# Altium footprint library Gravix-Diode.PcbLib: 4 footprints
Each footprint in its own frame and in the unit in brackets; x right, y up, seen from the top. Pads: shape width x height; smd on the part's side, far side on the other; paste and mask are expansions set on the pad; w line width, h text height; cw(c..) or ccw(c..) is an arc to the next point about the centre after c.
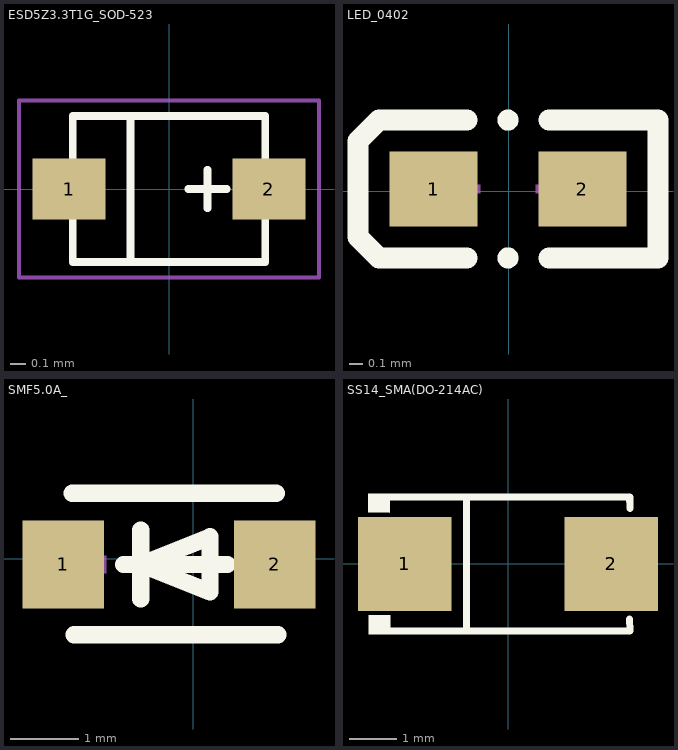
[diagram p0: the footprints below, top view; thin cyan lines are the x and y axes]

## ESD5Z3.3T1G_SOD-523 [mm]
pads (2):
  rect 0.48x0.4 smd: 1(-0.66,0) 2(0.66,0)
Top Overlay:
  lines w0.051: -0.635,-0.203 -0.635,-0.483 0.635,-0.483 0.635,-0.203 ; -0.635,0.203 -0.635,0.483 0.635,0.483 0.635,0.203 ; -0.254,-0.483 -0.254,0.483 ; 0.127,0 0.381,0 ; 0.254,-0.127 0.254,0.127
Mechanical 15:
  lines w0.025: -0.991,-0.584 -0.991,0.584 0.991,0.584 0.991,-0.584 -0.991,-0.584

## LED_0402 [mm]
pads (2):
  rect 0.636x0.54 smd paste-100 mask+0.05: 1(-0.545,0.016) 2(0.531,0.016)
Top Overlay:
  circle w0.076: c-0.007,-0.483 r0.038
  circle w0.076: c-0.007,0.515 r0.038
  lines w0.152: -0.302,-0.483 -0.94,-0.483 -1.092,-0.33 -1.092,0.363 -0.94,0.516 -0.302,0.516 ; 0.289,-0.483 1.078,-0.483 1.078,0.515 0.289,0.515
Top Paste:
  region: 0.191,-0.214 0.191,0.246 0.231,0.286 0.809,0.286 0.849,0.246 0.849,-0.214 0.809,-0.254 0.231,-0.254
  region: -0.205,-0.214 -0.205,0.246 -0.245,0.286 -0.824,0.286 -0.864,0.246 -0.864,-0.214 -0.824,-0.254 -0.245,-0.254
Mechanical 15:
  region: -0.447,-0.014 -0.447,0.046 -0.207,0.046 -0.207,-0.014
  region: 0.433,-0.014 0.433,0.046 0.193,0.046 0.193,-0.014
  region: 0.343,-0.184 0.343,0.216 0.283,0.216 0.283,-0.184
  region: 0.247,0.27 0.501,0.27 0.501,-0.238 0.247,-0.238

## SMF5.0A_ [mm]
pads (2):
  rect 1.2x1.3 smd paste+0 mask+0.051: 1(-1.913,-0.083) 2(1.2,-0.083)
Top Overlay:
  lines w0.254: -1.778,0.965 1.222,0.965 ; -1.753,-1.118 1.247,-1.118 ; -1.025,-0.083 0.499,-0.083 ; -0.771,-0.591 -0.771,0.425 ; -0.771,-0.083 0.245,0.324 0.245,-0.489 -0.771,-0.083
Mechanical 15:
  region: 0.88,0.044 1.769,0.044 1.769,-0.21 0.88,-0.21
  region: 1.208,-0.519 1.208,0.37 1.462,0.37 1.462,-0.519
  region: -2.168,0.044 -1.279,0.044 -1.279,-0.21 -2.168,-0.21
3D body "SS14_D.stp": height 1.41, standoff 0.1, extent -2.231,-0.965 1.469,0.835

## SS14_SMA(DO-214AC) [mm]
pads (2):
  rect 2x2 smd paste+0 mask+0.051: 1(-2.2,0) 2(2.2,0)
Top Overlay:
  region: -2.512,-1.096 -2.513,-1.503 -2.973,-1.498 -2.969,-1.096
  region: -2.52,1.502 -2.521,1.096 -2.981,1.1 -2.977,1.502
  lines w0.152: -2.596,-1.426 2.596,-1.426 ; -2.596,1.426 2.596,1.426 2.603,1.187 ; -0.884,-1.426 -0.884,1.426 ; 2.593,-1.176 2.6,-1.415
Mechanical 15:
  region: 2.014,-0.675 2.014,0.675 1.811,0.675 1.811,-0.675
  region: 2.29,-0.09 2.29,0.112 1.48,0.112 1.48,-0.09
  region: -2.317,-0.101 -2.317,0.101 -1.507,0.101 -1.507,-0.101
3D body "ss14_R.stp": height 2.09, standoff -0.01, extent -2.35,-1.254 2.35,1.346